# Altium footprint library components.PcbLib: 1 footprints
Each footprint in its own frame and in the unit in brackets; x right, y up, seen from the top. Pads: shape width x height; smd on the part's side, far side on the other; paste and mask are expansions set on the pad; w line width, h text height; cw(c..) or ccw(c..) is an arc to the next point about the centre after c.
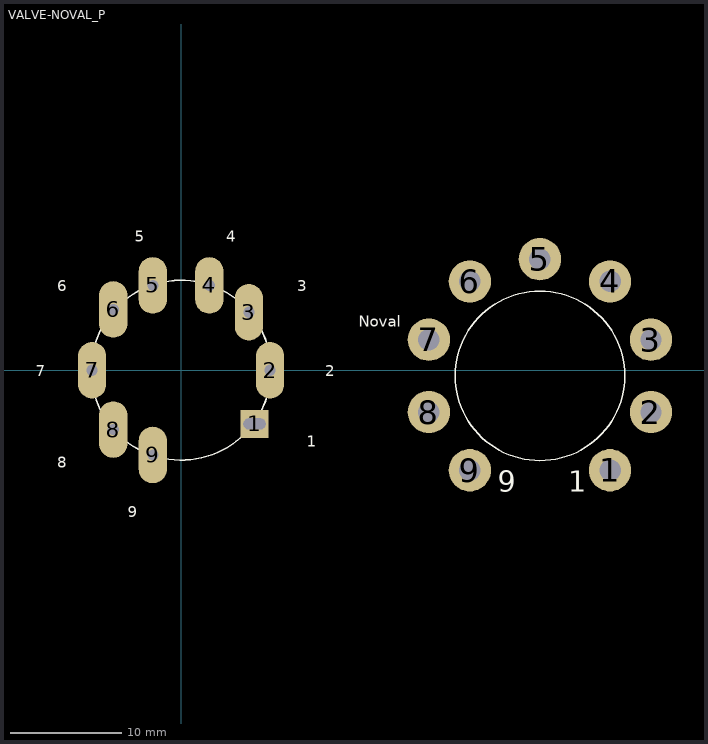
[diagram p0: the footprint, top view; thin cyan lines are the x and y axes]

## VALVE-NOVAL_P [mil]
pads (18):
  rect 100x100 hole 39.29 slot 78.74 at 0 deg: 1(260,-190)
  round 150 hole 76: 1(1518,-354) 2(1663,-148) 3(1663,108) 4(1518,314) 5(1270,393) 6(1022,314) 7(877,108) 8(877,-148) 9(1022,-354)
  oval 100x200 hole 39.3: 2(315,0) 3(240,205) 4(100,300) 5(-100,300) 6(-240,215) 7(-315,0) 8(-240,-210) 9(-100,-300)
F.SilkS:
  circle w5: c1270,-20 r300
  circle w5.91: c0,0 r318.2
  text "9" at 1120,-429.84 h73.82
  text "1" at 1370,-429.84 h73.82
  text "Noval" at 628.12,154.41 h39.37
  text "9" at -188.09,-520.59 h39.37
  text "8" at -439.03,-345.59 h39.37
  text "7" at -514.03,-20.59 h39.37
  text "6" at -438.09,279.41 h39.37
  text "5" at -164.03,454.41 h39.37
  text "4" at 160.04,454.41 h39.37
  text "3" at 410.97,279.41 h39.37
  text "2" at 510.97,-20.59 h39.37
  text "1" at 444.41,-270.59 h39.37
B.SilkS:
  circle w5: c1270,-20 r300
3D body "Tube Socket - PCB v2.step": height 484.25, standoff -89.35, extent 915.67,-374.33 1624.33,334.33
3D body "Tube Socket - PCB v2.step": height 405.51, standoff -168.09, extent -354.33,-354.33 354.33,354.33